# Altium schematic symbol library Schlib1.SchLib: 1 symbol
Pins are listed as number, name and electrical type; pins without a type are passive.

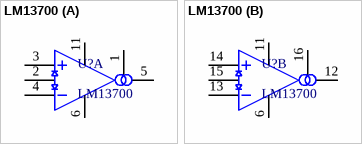
[diagram p0: symbol LM13700]

## LM13700
designator U?
part A pins: 1 amp bias, 2 amp bias, 3 +, 4 amp bias, 5 amp bias, 6 V-, 11 V+
part B pins: 6 V-, 11 V+, 12 amp bias, 13 amp bias, 14 +, 15 amp bias, 16 amp bias